# Altium schematic symbol library Castellated.SchLib: 2 symbols
Pins are listed as number, name and electrical type; pins without a type are passive.

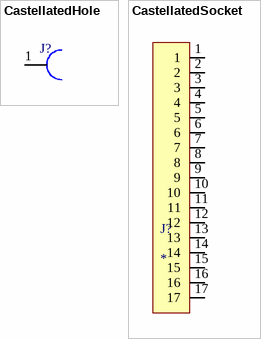
[diagram p0: symbols CastellatedHole to CastellatedSocket]

## CastellatedHole
designator J?  (value not drawn)
footprint CastellatedHole
pins: 1

## CastellatedSocket
designator J?
footprint Castellatedsocket
pins: 1, 2, 3, 4, 5, 6, 7, 8, 9, 10, 11, 12, 13, 14, 15, 16, 17